# EAGLE library part LPCLINK (library lieven)
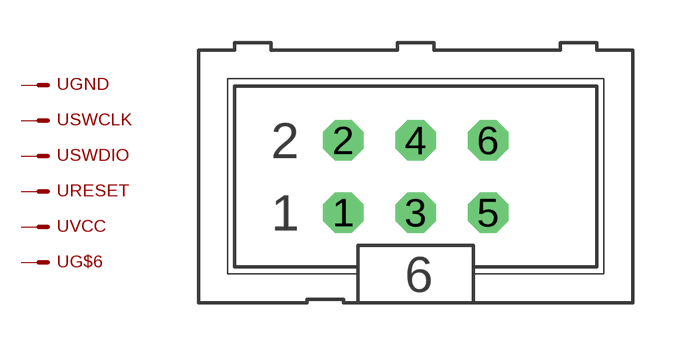
[diagram p1: symbol with the pads of ML6; footprint ML6]

Designator prefix -; gates GND=M SWCLK=M SWDIO=M RESET=M VCC=M G$6=M

## LPCLINK  [ML6]
1  GND:S  pas
2  VCC:S  pas
3  SWCLK:S  pas
4  SWDIO:S  pas
5  RESET:S  pas
6  G$6:S  pas

## Footprint ML6 (pad centres in mm)
HARTING
drill 0.914 octagon: 1 -2.54,-1.27; 2 -2.54,1.27; 3 0,-1.27; 4 0,1.27; 5 2.54,-1.27; 6 2.54,1.27